# Altium footprint library ON Semi Logic Multifunction.PcbLib: 21 footprints (part 2 of 2)
Each footprint in its own frame and in the unit in brackets; x right, y up, seen from the top. Pads: shape width x height; smd on the part's side, far side on the other; paste and mask are expansions set on the pad; w line width, h text height; cw(c..) or ccw(c..) is an arc to the next point about the centre after c.
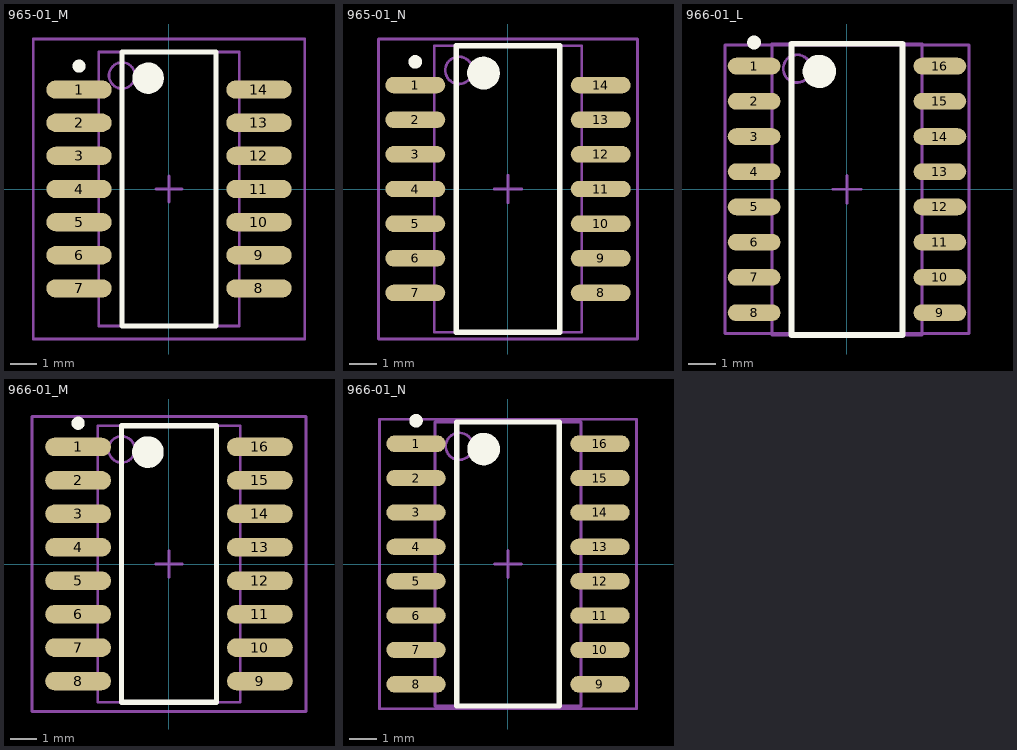
[diagram p1: the footprints below, top view; thin cyan lines are the x and y axes]

## 965-01_M [mm] "SOP, 14-Leads, Body 10.2x5.3mm, Pitch 1.27mm, IPC Low Density"
height 2.05
pads (14):
  oval 2.5x0.7 smd: 1(-3.45,3.81) 2(-3.45,2.54) 3(-3.45,1.27) 4(-3.45,0) 5(-3.45,-1.27) 6(-3.45,-2.54) 7(-3.45,-3.81) 8(3.45,-3.81) 9(3.45,-2.54) 10(3.45,-1.27) 11(3.45,0) 12(3.45,1.27) 13(3.45,2.54) 14(3.45,3.81)
Top Overlay:
  circle w0.6: c-0.8,4.25 r0.3
  circle w0.25: c-3.45,4.71 r0.125
  lines w0.2: -1.8,-5.25 1.8,-5.25 1.8,5.25 -1.8,5.25 -1.8,-5.25
Mechanical 13:
  circle w0.1: c-1.8,4.35 r0.5
  lines w0.1: -2.7,-5.25 2.7,-5.25 2.7,5.25 -2.7,5.25 -2.7,-5.25
Mechanical 15:
  lines w0.1: -0.5,0 0.5,0 ; 0,-0.5 0,0.5 ; -5.2,-5.75 5.2,-5.75 5.2,5.75 -5.2,5.75 -5.2,-5.75
3D body: height 2.05, standoff 0, extent -2.7,-5.25 2.7,5.25

## 965-01_N [mm] "SOP, 14-Leads, Body 10.2x5.3mm, Pitch 1.27mm, IPC Medium Density"
height 2.05
pads (14):
  oval 2.2x0.6 smd: 1(-3.4,3.81) 2(-3.4,2.54) 3(-3.4,1.27) 4(-3.4,0) 5(-3.4,-1.27) 6(-3.4,-2.54) 7(-3.4,-3.81) 8(3.4,-3.81) 9(3.4,-2.54) 10(3.4,-1.27) 11(3.4,0) 12(3.4,1.27) 13(3.4,2.54) 14(3.4,3.81)
Top Overlay:
  circle w0.25: c-3.4,4.66 r0.125
  circle w0.6: c-0.9,4.25 r0.3
  lines w0.2: -1.9,-5.25 -1.9,5.25 1.9,5.25 1.9,-5.25 -1.9,-5.25
Mechanical 13:
  circle w0.1: c-1.8,4.35 r0.5
  lines w0.1: -2.7,-5.25 -2.7,5.25 2.7,5.25 2.7,-5.25 -2.7,-5.25
Mechanical 15:
  lines w0.1: -0.5,0 0.5,0 ; 0,-0.5 0,0.5 ; -4.75,-5.5 -4.75,5.5 4.75,5.5 4.75,-5.5 -4.75,-5.5
3D body: height 2.05, standoff 0, extent -2.7,-5.25 2.7,5.25

## 966-01_L [mm] "SOP, 16-Leads, Body 10.2x5.3mm, Pitch 1.27mm, IPC High Density"
height 2.05
pads (16):
  oval 1.9x0.6 smd: 1(-3.35,4.445) 2(-3.35,3.175) 3(-3.35,1.905) 4(-3.35,0.635) 5(-3.35,-0.635) 6(-3.35,-1.905) 7(-3.35,-3.175) 8(-3.35,-4.445) 9(3.35,-4.445) 10(3.35,-3.175) 11(3.35,-1.905) 12(3.35,-0.635) 13(3.35,0.635) 14(3.35,1.905) 15(3.35,3.175) 16(3.35,4.445)
Top Overlay:
  circle w0.25: c-3.35,5.295 r0.125
  circle w0.6: c-1,4.25 r0.3
  lines w0.2: -2,-5.25 -2,5.25 2,5.25 2,-5.25 -2,-5.25
Mechanical 13:
  circle w0.1: c-1.8,4.35 r0.5
  lines w0.1: -2.7,-5.25 -2.7,5.25 2.7,5.25 2.7,-5.25 -2.7,-5.25
Mechanical 15:
  lines w0.1: -0.5,0 0.5,0 ; 0,-0.5 0,0.5 ; -4.4,-5.2 -4.4,5.2 4.4,5.2 4.4,-5.2 -4.4,-5.2
3D body: height 2.05, standoff 0, extent -2.7,-5.25 2.7,5.25

## 966-01_M [mm] "SOP, 16-Leads, Body 10.2x5.3mm, Pitch 1.27mm, IPC Low Density"
height 2.05
pads (16):
  oval 2.5x0.7 smd: 1(-3.45,4.445) 2(-3.45,3.175) 3(-3.45,1.905) 4(-3.45,0.635) 5(-3.45,-0.635) 6(-3.45,-1.905) 7(-3.45,-3.175) 8(-3.45,-4.445) 9(3.45,-4.445) 10(3.45,-3.175) 11(3.45,-1.905) 12(3.45,-0.635) 13(3.45,0.635) 14(3.45,1.905) 15(3.45,3.175) 16(3.45,4.445)
Top Overlay:
  circle w0.6: c-0.8,4.25 r0.3
  circle w0.25: c-3.45,5.345 r0.125
  lines w0.2: -1.8,-5.25 1.8,-5.25 1.8,5.25 -1.8,5.25 -1.8,-5.25
Mechanical 13:
  circle w0.1: c-1.8,4.35 r0.5
  lines w0.1: -2.7,-5.25 2.7,-5.25 2.7,5.25 -2.7,5.25 -2.7,-5.25
Mechanical 15:
  lines w0.1: -0.5,0 0.5,0 ; 0,-0.5 0,0.5 ; -5.2,-5.6 5.2,-5.6 5.2,5.6 -5.2,5.6 -5.2,-5.6
3D body: height 2.05, standoff 0, extent -2.7,-5.25 2.7,5.25

## 966-01_N [mm] "SOP, 16-Leads, Body 10.2x5.3mm, Pitch 1.27mm, IPC Medium Density"
height 2.05
pads (16):
  oval 2.2x0.6 smd: 1(-3.4,4.445) 2(-3.4,3.175) 3(-3.4,1.905) 4(-3.4,0.635) 5(-3.4,-0.635) 6(-3.4,-1.905) 7(-3.4,-3.175) 8(-3.4,-4.445) 9(3.4,-4.445) 10(3.4,-3.175) 11(3.4,-1.905) 12(3.4,-0.635) 13(3.4,0.635) 14(3.4,1.905) 15(3.4,3.175) 16(3.4,4.445)
Top Overlay:
  circle w0.6: c-0.9,4.25 r0.3
  circle w0.25: c-3.4,5.295 r0.125
  lines w0.2: -1.9,-5.25 1.9,-5.25 1.9,5.25 -1.9,5.25 -1.9,-5.25
Mechanical 13:
  circle w0.1: c-1.8,4.35 r0.5
  lines w0.1: -2.7,-5.25 2.7,-5.25 2.7,5.25 -2.7,5.25 -2.7,-5.25
Mechanical 15:
  lines w0.1: -0.5,0 0.5,0 ; 0,-0.5 0,0.5 ; -4.75,-5.35 4.75,-5.35 4.75,5.35 -4.75,5.35 -4.75,-5.35
3D body: height 2.05, standoff 0, extent -2.7,-5.25 2.7,5.25